# Altium schematic symbol library SCH - DRIVER - LED - TI TPS92200D2DDC.SchLib: 1 symbol
Pins are listed as number, name and electrical type; pins without a type are passive.

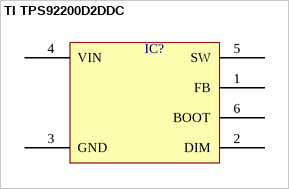
[diagram p0: symbol TI TPS92200D2DDC]

## TI TPS92200D2DDC
designator IC?  (value not drawn)
pins: 1 FB, 2 DIM, 3 GND, 4 VIN, 5 SW, 6 BOOT